# EAGLE library part OBD2_ (library customics)
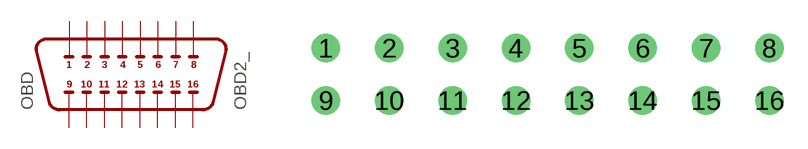
[diagram p12: symbol with the pads of OBD2; footprint OBD2]

Designator prefix OBD

## OBD2_OBD2_90  [OBD2]
1  1
2  2
3  3
4  4
5  5
6  6
7  7
8  8
9  9
10  10
11  11
12  12
13  13
14  14
15  15
16  16

## Footprint OBD2 (pad centres in mm)
drill 1.2: 1 -14,1.65; 2 -10,1.65; 3 -6,1.65; 4 -2,1.65; 5 2,1.65; 6 6,1.65; 7 10,1.65; 8 14,1.65; 9 -14,-1.65; 10 -10,-1.65; 11 -6,-1.65; 12 -2,-1.65; 13 2,-1.65; 14 6,-1.65; 15 10,-1.65; 16 14,-1.65